# Altium footprint library qudong.PcbLib: 17 footprints (part 1 of 2)
Each footprint in its own frame and in the unit in brackets; x right, y up, seen from the top. Pads: shape width x height; smd on the part's side, far side on the other; paste and mask are expansions set on the pad; w line width, h text height; cw(c..) or ccw(c..) is an arc to the next point about the centre after c.
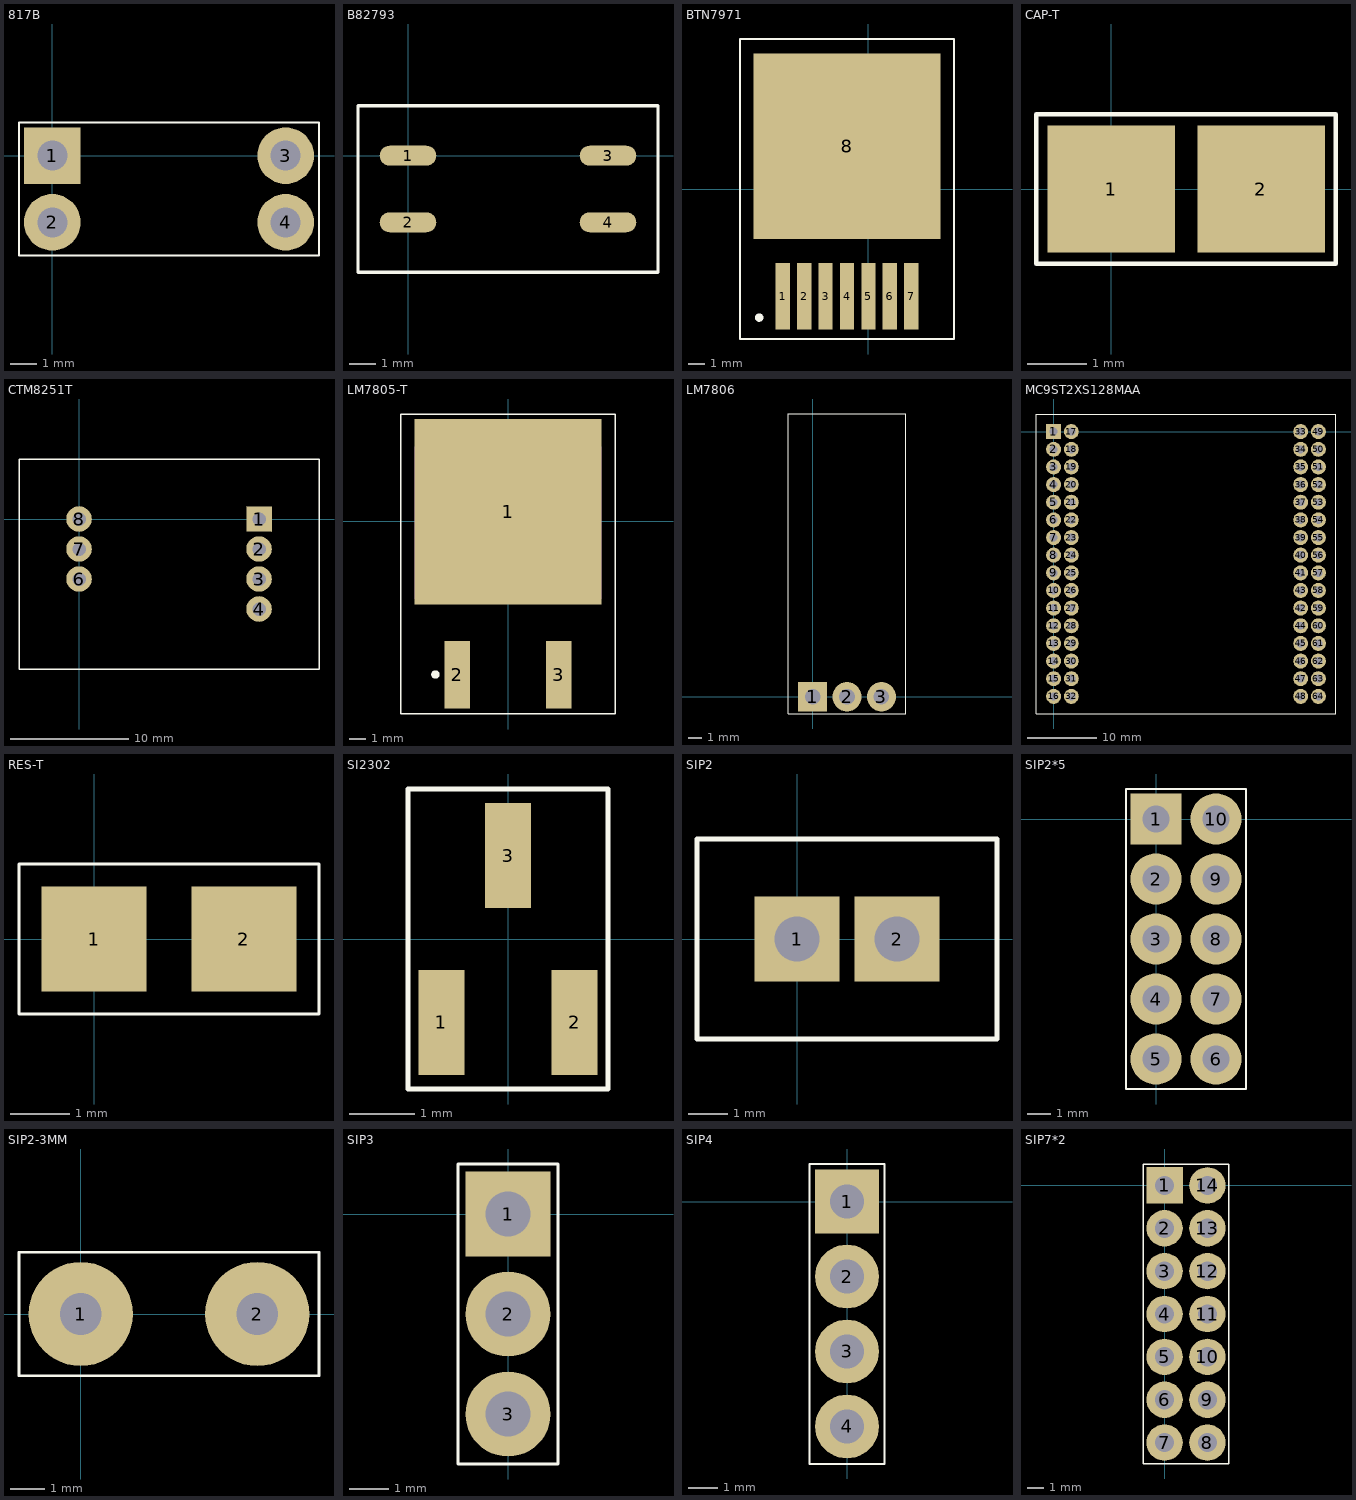
[diagram p0: the footprints below, top view; thin cyan lines are the x and y axes]

## 817B [mil]
pads (4):
  rect 85x85 hole 45: 1(0,0)
  round 85 hole 45: 2(0,-100) 3(350,0) 4(350,-100)
Top Overlay:
  lines w3: -50,-150 400,-150 400,50 -50,50 -50,-150

## B82793 [mil]
pads (4):
  oval 85x30 smd: 1(0,0) 2(0,-100) 3(300,0) 4(300,-100)
Top Overlay:
  lines w5: -75,-175 -75,75 375,75 375,-175 -75,-175

## BTN7971 [mm] "TO, 8-Pads, Body 9.5x11.0mm (max), IPC Medium Density"
height 5
pads (8):
  rect 0.85x3.95 smd: 1(-5.08,-6.35) 2(-3.81,-6.35) 3(-2.54,-6.35) 4(-1.27,-6.35) 5(0,-6.35) 6(1.27,-6.35) 7(2.54,-6.35)
  rect 11.1x11 smd: 8(-1.27,2.54)
Top Overlay:
  circle w0.25: c-6.475,-7.62 r0.125
  lines w0.127: -7.62,-8.89 5.08,-8.89 5.08,8.89 -7.62,8.89 -7.62,-8.89
Mechanical 15:
  lines w0.1: -1.77,0 -0.77,0 ; -1.27,-0.5 -1.27,0.5

## CAP-T [mil]
pads (2):
  rect 85x85 smd: 1(0,0) 2(100,0)
Top Overlay:
  lines w3: -50,-50 150,-50 150,50 -50,50 -50,-50

## CTM8251T [mil]
pads (7):
  rect 85x85 hole 45: 1(600,0)
  round 85 hole 45: 2(600,-100) 3(600,-200) 4(600,-300) 6(0,-200) 7(0,-100) 8(0,0)
Top Overlay:
  lines w5: -200,-500 800,-500 800,200 -200,200 -200,0 -200,-500

## LM7805-T [mm] "TO, 3-Pads, Body 9.0x11.0mm (max), IPC Medium Density"
height 5
pads (3):
  rect 11.1x11 smd: 1(0,0.56)
  rect 1.5x4 smd: 2(-3,-9.09) 3(3,-9.09)
Top Overlay:
  circle w0.25: c-4.3,-9.09 r0.125
  lines w0.076: -6.35,-11.43 6.35,-11.43 6.35,6.35 -6.35,6.35 -6.35,-11.43
Mechanical 13:
  lines w0.1: -5.5,-4.59 -5.5,4.41 5.5,4.41 5.5,-4.59 -5.5,-4.59
Mechanical 15:
  lines w0.1: -0.5,-2.54 0.5,-2.54 ; 0,-3.04 0,-2.04
3D body: height 5, standoff 0, extent -5.5,-4.59 5.5,4.41

## LM7806 [mil]
pads (3):
  rect 85x85 hole 45: 1(0,0)
  round 85 hole 45: 2(100,0) 3(200,0)
Top Overlay:
  lines w3: -70,-50 -70,50 -70,570 -70,820 270,820 270,-50 -70,-50

## MC9ST2XS128MAA [mil]
pads (64):
  rect 85x85 hole 45: 1(0,0)
  round 85 hole 45: 2(0,-100) 3(0,-200) 4(0,-300) 5(0,-400) 6(0,-500) 7(0,-600) 8(0,-700) 9(0,-800) 10(0,-900) 11(0,-1000) 12(0,-1100) 13(0,-1200) 14(0,-1300) 15(0,-1400) 16(0,-1500) 17(100,0) 18(100,-100) 19(100,-200) 20(100,-300) 21(100,-400) 22(100,-500) 23(100,-600) 24(100,-700) 25(100,-800) 26(100,-900) 27(100,-1000) 28(100,-1100) 29(100,-1200) 30(100,-1300) 31(100,-1400) 32(100,-1500) 33(1400,0) 34(1400,-100) 35(1400,-200) 36(1400,-300) 37(1400,-400) 38(1400,-500) 39(1400,-600) 40(1400,-700) 41(1400,-800) 42(1400,-1000) 43(1400,-900) 44(1400,-1100) 45(1400,-1200) 46(1400,-1300) 47(1400,-1400) 48(1400,-1500) 49(1500,0) 50(1500,-100) 51(1500,-200) 52(1500,-300) 53(1500,-400) 54(1500,-500) 55(1500,-600) 56(1500,-700) 57(1500,-800) 58(1500,-900) 59(1500,-1000) 60(1500,-1100) 61(1500,-1200) 62(1500,-1300) 63(1500,-1400) 64(1500,-1500)
Top Overlay:
  lines w3: -100,-1600 1600,-1600 1600,100 -100,100 -100,-1600

## RES-T [mil]
pads (2):
  rect 70x70 smd: 1(0,0) 2(100,0)
Top Overlay:
  lines w2: -50,-50 150,-50 150,50 -50,50 -50,-50

## SI2302 [mm] "SOT23, 3-Leads, Body 3.0x2.6mm (max), Pitch 0.90mm, IPC Medium Density"
height 1.1
pads (3):
  rect 0.7x1.6 smd: 1(-1.016,-1.27) 2(1.016,-1.27) 3(0,1.27)
Top Overlay:
  lines w0.076: -1.524,-2.286 -1.524,2.286 -1.27,2.286 1.524,2.286 1.524,-2.286 -1.524,-2.286

## SIP2 [mil]
pads (2):
  rect 85x85 hole 45: 1(0,0) 2(100,0)
Top Overlay:
  lines w5: -100,-100 -100,100 200,100 200,-100 -100,-100

## SIP2*5 [mil]
pads (10):
  rect 85x85 hole 45: 1(0,0)
  round 85 hole 45: 2(0,-100) 3(0,-200) 4(0,-300) 5(0,-400) 6(100,-400) 7(100,-300) 8(100,-200) 9(100,-100) 10(100,0)
Top Overlay:
  lines w3: -50,-450 150,-450 150,-440 150,50 -50,50 -50,-450

## SIP2-3MM [mm]
pads (2):
  round 3 hole 1.2: 1(0,0) 2(5.08,0)
Top Overlay:
  lines w0.076: -1.778,-1.778 -1.778,1.778 6.858,1.778 6.858,-1.778 -1.778,-1.778

## SIP3 [mil]
pads (3):
  rect 85x85 hole 45: 1(0,0)
  round 85 hole 45: 2(0,-100) 3(0,-200)
Top Overlay:
  lines w3: -50,-250 -50,50 50,50 50,-250 -50,-250

## SIP4 [mil]
pads (4):
  rect 85x85 hole 45: 1(0,0)
  round 85 hole 45: 2(0,-100) 3(0,-200) 4(0,-300)
Top Overlay:
  lines w3: -50,-350 50,-350 50,50 -50,50 -50,-350

## SIP7*2 [mil]
pads (14):
  rect 85x85 hole 45: 1(0,0)
  round 85 hole 45: 2(0,-100) 3(0,-200) 4(0,-300) 5(0,-400) 6(0,-500) 7(0,-600) 8(100,-600) 9(100,-500) 10(100,-400) 11(100,-300) 12(100,-200) 13(100,-100) 14(100,0)
Top Overlay:
  lines w3: -50,-650 -50,50 150,50 150,-650 -50,-650